# EAGLE library part HEF4002BT (library NXP_By_element14_Batch_1)
Dual 4-input NOR gate
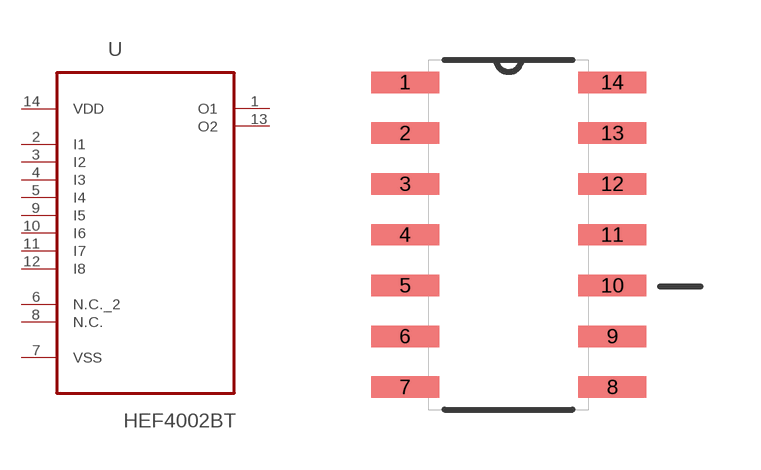
[diagram p241: symbol with the pads of SOIC127P600X175-14N; footprint SOIC127P600X175-14N]

Designator prefix U

## HEF4002BT (MPN: HEF4002BT; OC_FARNELL: 1085278; OC_NEWARK: 97K1286; P1I: o; PACKAGE: SOIC-14; SUPPLIER: NXP)  [SOIC127P600X175-14N]
1  O1  out
2  I1  in
3  I2  in
4  I3  in
5  I4  in
6  N.C._2  in
7  VSS  pas
8  N.C.  nc
9  I5  in
10  I6  in
11  I7  in
12  I8  in
13  O2  out
14  VDD  pwr

## Footprint SOIC127P600X175-14N (pad centres in mm)
smd 1.702 x 0.533: 1 -2.591,3.81; 2 -2.591,2.54; 3 -2.591,1.27; 4 -2.591,0; 5 -2.591,-1.27; 6 -2.591,-2.54; 7 -2.591,-3.81; 8 2.591,-3.81; 9 2.591,-2.54; 10 2.591,-1.27; 11 2.591,0; 12 2.591,1.27; 13 2.591,2.54; 14 2.591,3.81